# Altium schematic symbol library ZDEMMC04GA.Schlib: 1 symbol
Pins are listed as number, name and electrical type; pins without a type are passive.

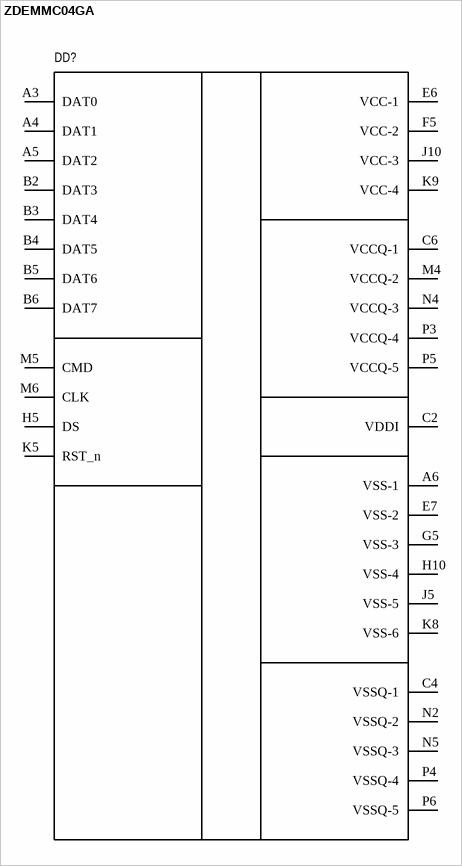
[diagram p0: symbol ZDEMMC04GA]

## ZDEMMC04GA
designator DD?
pins: A3 DAT0, A4 DAT1, A5 DAT2, A6 VSS-1, B2 DAT3, B3 DAT4, B4 DAT5, B5 DAT6, B6 DAT7, C2 VDDI, C4 VSSQ-1, C6 VCCQ-1, E6 VCC-1, E7 VSS-2, F5 VCC-2, G5 VSS-3, H5 DS, H10 VSS-4, J5 VSS-5, J10 VCC-3, K5 RST_n, K8 VSS-6, K9 VCC-4, M4 VCCQ-2, M5 CMD, M6 CLK, N2 VSSQ-2, N4 VCCQ-3, N5 VSSQ-3, P3 VCCQ-4, P4 VSSQ-4, P5 VCCQ-5, P6 VSSQ-5